# EAGLE library part AON3419 (library vikc-mosfet)
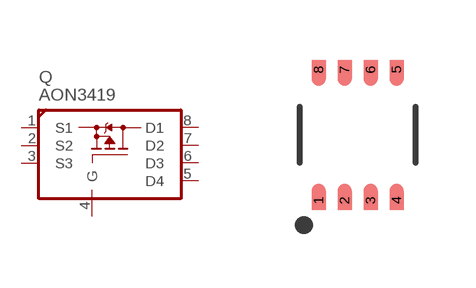
[diagram p0: symbol with the pads of DFN8-MF; footprint DFN8-MF]

Designator prefix Q

## AON3419  [DFN8-MF]
1  S1  pas
2  S2  pas
3  S3  pas
4  G  pas
5  D4  pas
6  D3  pas
7  D2  pas
8  D1  pas

## Footprint DFN8-MF (pad centres in mm)
DFN8 (MF) 8-Lead plastic dual flat, no lead package - 3x3x0.9mm (Microchip)
smd 0.35 x 0.475: 1 -0.975,-1.637; 2 -0.325,-1.637; 3 0.325,-1.637; 4 0.975,-1.637; 5 0.975,1.637; 6 0.325,1.637; 7 -0.325,1.637; 8 -0.975,1.637